# EAGLE library part 75162 (library 751xx)
75xxx DEVICE
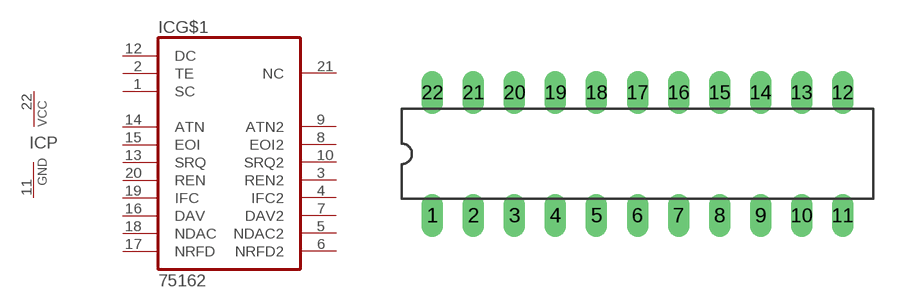
[diagram p1: symbol with the pads of DIL22-3; footprint DIL22-3]

Designator prefix IC; gates G$1=75162 P=PWRN

## 75162P  [DIL22-3]
1  G$1:SC  in
2  G$1:TE  in
3  G$1:REN2
4  G$1:IFC2
5  G$1:NDAC2
6  G$1:NRFD2
7  G$1:DAV2
8  G$1:EOI2
9  G$1:ATN2
10  G$1:SRQ2
11  P:GND  pwr
12  G$1:DC  in
13  G$1:SRQ
14  G$1:ATN
15  G$1:EOI
16  G$1:DAV
17  G$1:NRFD
18  G$1:NDAC
19  G$1:IFC
20  G$1:REN
21  G$1:NC  nc
22  P:VCC  pwr

## Footprint DIL22-3 (pad centres in mm)
Dual In Line Package 0.3 inch
drill 0.813 long: 1 -12.7,-3.81; 2 -10.16,-3.81; 3 -7.62,-3.81; 4 -5.08,-3.81; 5 -2.54,-3.81; 6 0,-3.81; 7 2.54,-3.81; 8 5.08,-3.81; 9 7.62,-3.81; 10 10.16,-3.81; 11 12.7,-3.81; 12 12.7,3.81; 13 10.16,3.81; 14 7.62,3.81; 15 5.08,3.81; 16 2.54,3.81; 17 0,3.81; 18 -2.54,3.81; 19 -5.08,3.81; 20 -7.62,3.81; 21 -10.16,3.81; 22 -12.7,3.81